# Altium footprint library MMT_Capacitors.PcbLib: 16 footprints
Each footprint in its own frame and in the unit in brackets; x right, y up, seen from the top. Pads: shape width x height; smd on the part's side, far side on the other; paste and mask are expansions set on the pad; w line width, h text height; cw(c..) or ccw(c..) is an arc to the next point about the centre after c.
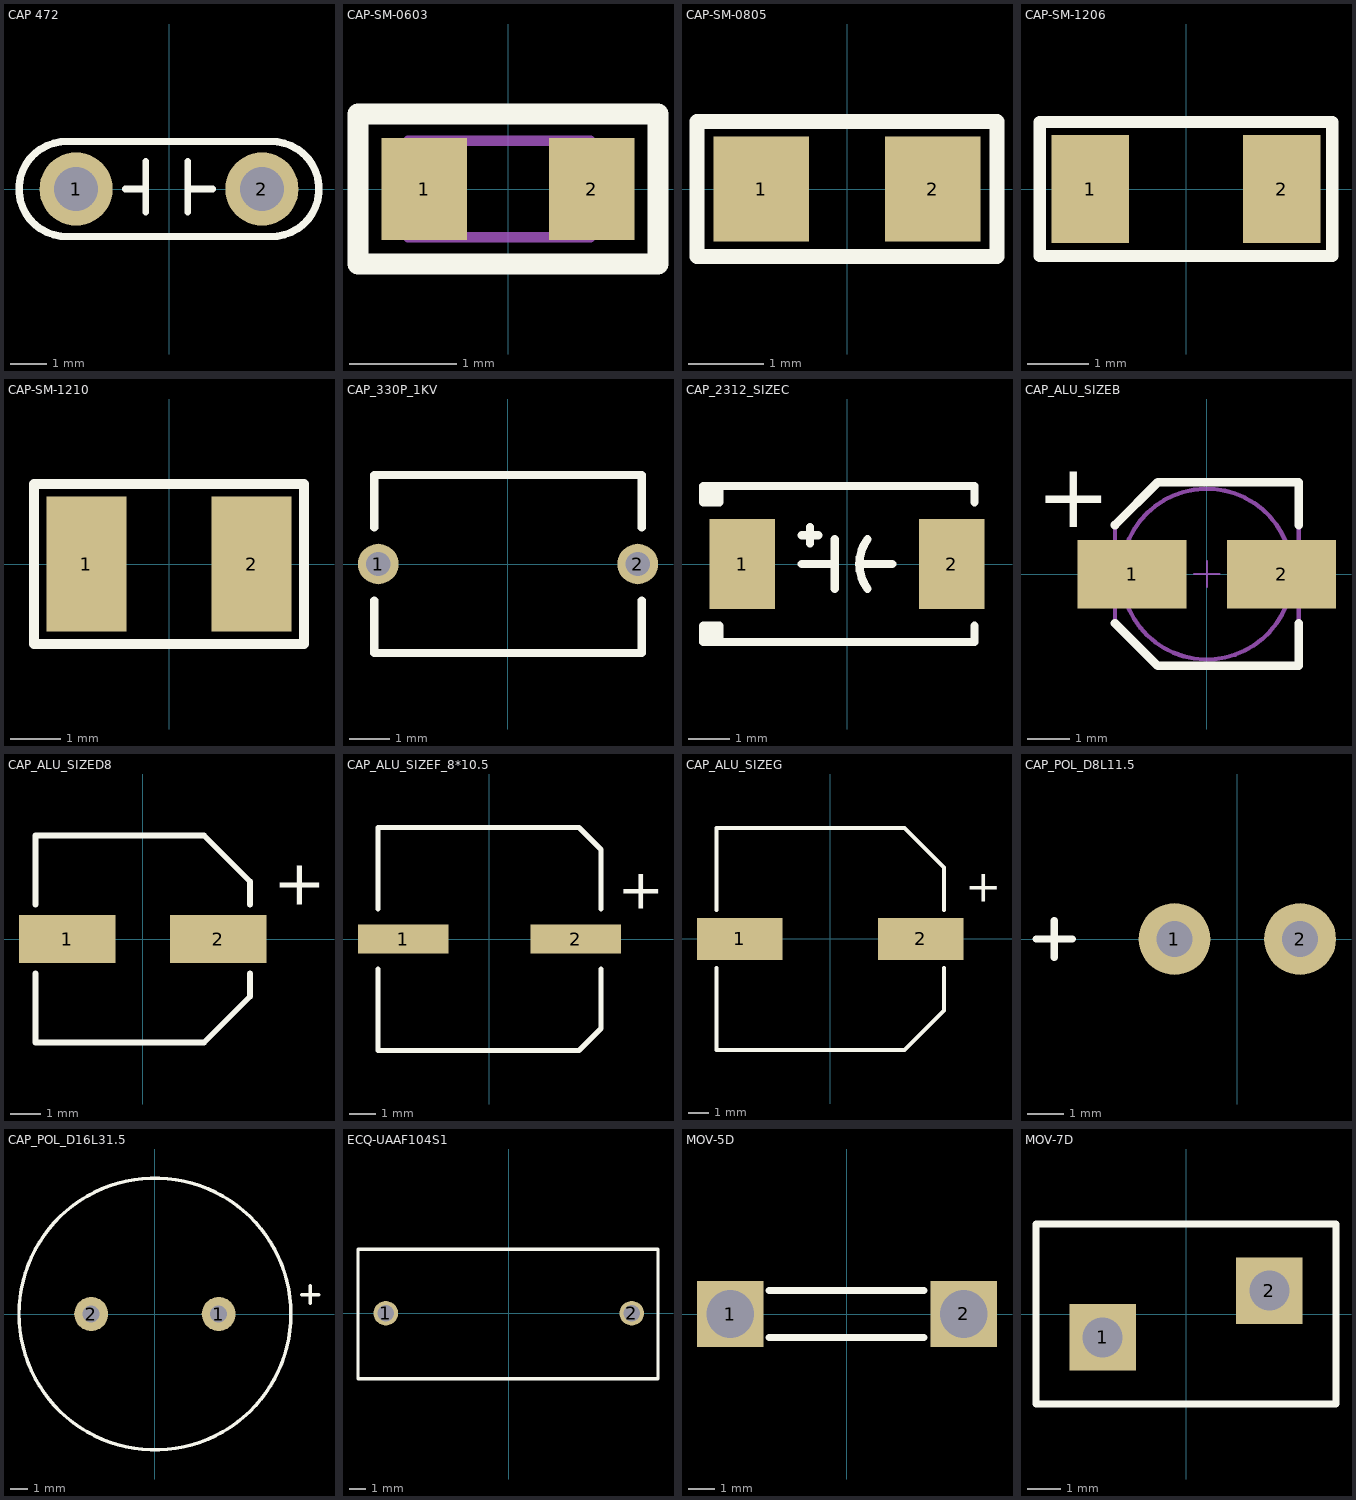
[diagram p0: the footprints below, top view; thin cyan lines are the x and y axes]

## CAP 472 [mm] "Tu gom"
pads (2):
  round 2 hole 1.2: 1(-2.54,0) 2(2.54,0)
Top Overlay:
  lines w0.178: -1.2,0 -0.635,0 ; -0.635,-0.635 -0.635,0.762 ; 0.508,-0.635 0.508,0.762 ; 0.508,0 1.2,0
  lines w0.2: -2.76,-1.3 cw(c-2.8,0) -2.76,1.3 2.76,1.3 cw(c2.8,0) 2.76,-1.3 -2.76,-1.3
3D body "tu hoa 5mm.step": height 10.86, standoff -1.71, extent -4,-1.25 4,1.26

## CAP-SM-0603 [mm] "SMD Ceramic Capacitor Size 0603"
height 0.6
pads (2):
  rect 0.8x0.95 smd: 1(-0.782,0) 2(0.782,0)
Top Overlay:
  lines w0.2: -1.4,-0.7 1.4,-0.7 1.4,0.7 -1.4,0.7 -1.4,-0.7
Mechanical 13:
  lines w0.1: -0.932,-0.45 0.768,-0.45 0.768,0.45 -0.932,0.45 -0.932,-0.45
3D body "User Library-res0603.STEP": height 0.53, standoff 0, extent -1.292,-0.494 1.308,0.506

## CAP-SM-0805 [mil]
pads (2):
  rect 50x55 smd: 1(-45,0) 2(45,0)
Top Overlay:
  lines w7.87: -78.74,-35.43 78.74,-35.43 78.74,35.43 -78.74,35.43 -78.74,-35.43
3D body "74567.stp": height 36.71, standoff 2.06, extent -42.31,-28.09 44.31,29

## CAP-SM-1206 [mil]
pads (2):
  rect 50x70 smd: 1(-61.97,0) 2(61.97,0)
Top Overlay:
  lines w7.87: -94.49,-43.31 94.49,-43.31 94.49,43.31 -94.49,43.31 -94.49,-43.31
3D body "c1206c105k4ractu.stp": height 55.12, standoff 0, extent -66.92,-35.42 66.94,35.44

## CAP-SM-1210 [mil]
pads (2):
  rect 63x106 smd: 1(-65,0) 2(65,0)
Top Overlay:
  lines w7.87: -106.3,-62.99 106.3,-62.99 106.3,62.99 -106.3,62.99 -106.3,-62.99
3D body "User Library-CAPC3225X13.step": height 51.18, standoff 0, extent -62.99,-49.21 63,49.22

## CAP_330P_1KV [mm]
pads (2):
  round 1 hole 0.6: 1(-3.2,0) 2(3.2,0)
Top Overlay:
  lines w0.2: -3.3,-0.9 -3.3,-2.2 3.3,-2.2 3.3,-0.9 ; -3.3,0.9 -3.3,2.2 3.3,2.2 3.3,0.9
3D body "User Library-6mm radial ceramic disc capacitor.step": height 8.5, standoff -25.12, extent -3,-1.9 3,1.9

## CAP_2312_SIZEC [mm]
pads (2):
  rect 1.6x2.2 smd: 1(-2.55,0) 2(2.55,0)
Top Overlay:
  lines w0.2: -1.1,0 -0.3,0 ; -1.1,0.7 -0.7,0.7 ; -0.9,0.5 -0.9,0.9 ; -0.3,-0.6 -0.3,0.6 ; 0.3,0 1.1,0 ; 0.5,-0.6 cw(c1.3,0) 0.5,0.6 ; 3.1,-1.5 3.1,-1.9 -3.3,-1.9 ; 3.1,1.5 3.1,1.9 -3.3,1.9 ; -3.3,-1.9 -3.5,-1.9 -3.5,-1.5 -3.3,-1.5 ; -3.3,-1.9 -3.1,-1.9 -3.1,-1.5 -3.3,-1.5 ; -3.3,-1.9 -3.3,-1.5 ; -3.3,1.5 -3.5,1.5 -3.5,1.9 -3.3,1.9 ; -3.3,1.5 -3.1,1.5 -3.1,1.9 -3.3,1.9 ; -3.3,1.5 -3.3,1.9
3D body "User Library-AVX_C_CASE.step": height 2.7, standoff 0, extent -3.05,-1.675 3.05,1.675

## CAP_ALU_SIZEB [mm] "Capacitor, Aluminium Electrolytric, 4.3mm L X 4.3mm W X 5.4mm H, IPC Medium Density"
height 5.4
pads (2):
  rect 2.55x1.6 smd: 1(-1.75,0) 2(1.75,0)
Top Overlay:
  lines w0.2: -2.15,-1.15 -1.15,-2.15 2.15,-2.15 2.15,-1.15 ; -2.15,1.15 -1.15,2.15 2.15,2.15 2.15,1.15
  text "+" at -4,1.1 h1.52
Mechanical 14:
  circle w0.1: c0,0 r2
  lines w0.1: -2.15,-1.15 -1.15,-2.15 2.15,-2.15 2.15,2.15 -1.15,2.15 -2.15,1.15 -2.15,-1.15
Mechanical 15:
  lines w0.05: -0.3,0 0.3,0 ; 0,-0.3 0,0.3
3D body "CAPAE430X540N.stp": height 5.7, standoff 0, extent -2.75,-2.25 2.75,2.25

## CAP_ALU_SIZED8 [mm]
height 7.7
pads (2):
  rect 3.2x1.6 smd: 1(-2.5,0) 2(2.5,0)
Top Overlay:
  lines w0.2: -3.556,-1.143 -3.556,-3.429 2.032,-3.429 3.556,-1.905 3.556,-1.143 ; -3.556,1.143 -3.556,3.429 2.032,3.429 3.556,1.905 3.556,1.143
  text "+" at 4.318,1.143 h1.52
3D body "User Library-capacitor size D8.step": height 7.71, standoff -0.01, extent -3.5,-3.3 3.5,3.3

## CAP_ALU_SIZEF_8*10.5 [mm]
pads (2):
  rect 3.4x1.1 smd: 1(-3.25,0) 2(3.25,0)
Top Overlay:
  lines w0.2: -4.2,-1.143 -4.2,-4.2 3.367,-4.2 4.2,-3.367 4.2,-1.143 ; -4.2,1.143 -4.2,4.2 3.367,4.2 4.2,3.367 4.2,1.143
  text "+" at 4.826,1.143 h1.52
3D body "User Library-capacitor size F.step": height 10.21, standoff -0.01, extent -4.95,-4.15 4.95,4.15

## CAP_ALU_SIZEG [mm]
pads (2):
  rect 4.1x2 smd: 1(-4.35,0) 2(4.35,0)
Top Overlay:
  lines w0.2: -5.461,-1.397 -5.461,-5.334 3.556,-5.334 5.461,-3.429 5.461,-1.397 ; -5.461,1.397 -5.461,5.334 3.556,5.334 5.461,3.429 5.461,1.397
  text "+" at 6.477,1.778 h1.52
3D body "User Library-capacitor size G.step": height 10.21, standoff -0.01, extent -5.8,-5.15 5.8,5.15

## CAP_POL_D8L11.5 [mm]
height 11.5
pads (2):
  round 2 hole 1: 1(-1.75,0) 2(1.75,0)
Top Overlay:
  lines w0.2: -5.608,0 -4.592,0 ; -5.1,-0.508 -5.1,0.508
3D body "User Library-CapAluRadial_D80H115.STEP": height 13, standoff -3, extent -4.25,-4.247 4.25,4.247

## CAP_POL_D16L31.5 [mm]
height 31.5
pads (2):
  round 2 hole 1: 1(3.75,0) 2(-3.75,0)
Top Overlay:
  circle w0.2: c0,0 r8
  lines w0.2: 8.636,1.143 9.652,1.143 ; 9.144,0.635 9.144,1.651
3D body "User Library-CapAluRadial_D160H315.STEP": height 33.5, standoff -3, extent -8.25,-8.249 8.25,8.25

## ECQ-UAAF104S1 [mm]
height 12
pads (2):
  round 1.5 hole 1: 1(-7.5,0) 2(7.5,0)
Top Overlay:
  lines w0.2: -9.2,-4 -9.2,3.9 9.1,3.9 9.1,-4 -9.2,-4
3D body "phe840mx6220mb06r17.stp": height 14.5, standoff -5, extent -9.04,-3.8 8.96,3.701

## MOV-5D [mm]
pads (2):
  rect 2.5x2.5 hole 1.8: 1(-4.397,0) 2(4.397,0)
Top Overlay:
  lines w0.254: -2.94,-0.889 2.902,-0.889 ; -2.94,0.889 2.902,0.889
3D body "User Library-Panasonic ECK-A3D102KBP.step": height 9.03, standoff -4.16, extent -4.045,-1.198 3.956,1.195

## MOV-7D [mm]
pads (2):
  rect 2x2 hole 1.2: 1(-2.5,-0.7) 2(2.5,0.7)
Top Overlay:
  lines w0.2: -4.5,-2.7 4.5,-2.7 4.5,2.7 -4.5,2.7 -4.5,-2.7
3D body "User Library-VCR-07D391K.step": height 13, standoff -2.54, extent -4.5,-2.7 4.5,2.7